# EAGLE library part WE-FB_EFD25_SCH1 (library WE-FB)
WE-FB Flyback Transformer suitable for LT3573/ LT3574/ LT3575/ LT3748 Characteristics Easy design-in solution Less external components needed Small board space Low cost No optocoupler needed! Long term reliability voltage control No aging Same external parts for different output voltages Easy design of custom power supply due to standard circuit and change of transformers and two components for feedback loop Isolation voltage up to 2.5 kV Applications Isolated power design Sensor interfaces Isolated telecom converters Power over Ethernet <https://www.we-online.com/catalog/media/o35283v209%20Family_we-fb_LT%20Kits_gruppe.jpg> Details see: www.we-online.com/catalog/WE-FB <www.we-online.com/catalog/WE-FB/?utm_source=eagle_model&utm_medium=description_link&utm_campaign=eisos_eagle> Updated by Ella Wu 2022-07-21 2022 Wurth Elektronik
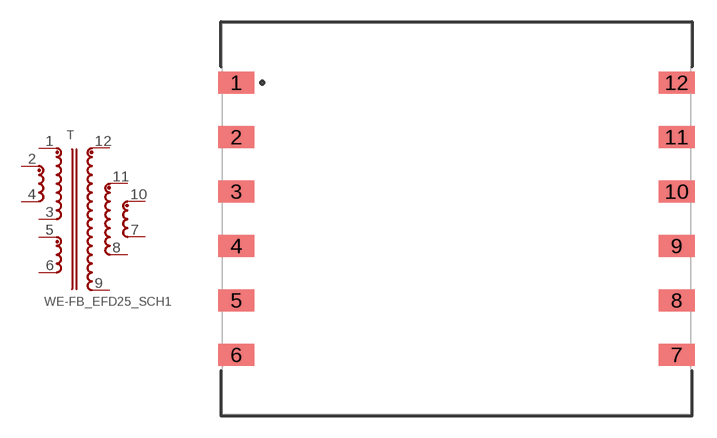
[diagram p6: symbol with the pads of WE-FB_EFD25; footprint WE-FB_EFD25]

Designator prefix T

## WE-FB_EFD25_SCH1_750311589 (DATASHEET-URL: https://www.we-online.com/redexpert/spec/750311589?ae; IOUT: 9A; ISAT: 18A; L: 6uH; LSMIN: 0.2uH; MOUNT: SMT; N: 3:1; PART-NUMBER: 750311589; VALUE: 750311589; VIN: 20-48V(DC); VOUT: 5V; VT: 1500V(AC)), WE-FB_EFD25_SCH1_750311590 (DATASHEET-URL: https://www.we-online.com/redexpert/spec/750311590?ae; IOUT: 3.8A; ISAT: 18A; L: 8uH; LSMIN: 0.2uH; MOUNT: SMT; N: 2:1; PART-NUMBER: 750311590; VALUE: 750311590; VIN: 20-48V(DC); VOUT: 12V; VT: 1500V(AC)), WE-FB_EFD25_SCH1_750311591 (DATASHEET-URL: https://www.we-online.com/redexpert/spec/750311591?ae; IOUT: 3A; ISAT: 20A; L: 8uH; LSMIN: 0.2uH; MOUNT: SMT; N: 3:2; PART-NUMBER: 750311591; VALUE: 750311591; VIN: 20-48V(DC); VOUT: 15V; VT: 1500V(AC)), WE-FB_EFD25_SCH1_750311592 (DATASHEET-URL: https://www.we-online.com/redexpert/spec/750311592?ae; IOUT: 1.9A; ISAT: 18A; L: 8uH; LSMIN: 0.2uH; MOUNT: SMT; N: 1:1; PART-NUMBER: 750311592; VALUE: 750311592; VIN: 20-48V(DC); VOUT: 24V; VT: 1500V(AC)), WE-FB_EFD25_SCH1_750311593 (DATASHEET-URL: https://www.we-online.com/redexpert/spec/750311593?ae; IOUT: 9A; ISAT: 18A; L: 15uH; LSMIN: 0.3uH; MOUNT: SMT; N: 7:2; PART-NUMBER: 750311593; VALUE: 750311593; VIN: 30-75V(DC); VOUT: 5V; VT: 1500V(AC)), WE-FB_EFD25_SCH1_750311594 (DATASHEET-URL: https://www.we-online.com/redexpert/spec/750311594?ae; IOUT: 3.8A; ISAT: 18A; L: 15uH; LSMIN: 0.4uH; MOUNT: SMT; N: 5:2; PART-NUMBER: 750311594; VALUE: 750311594; VIN: 30-75V(DC); VOUT: 12V; VT: 1500V(AC)), WE-FB_EFD25_SCH1_750311595 (DATASHEET-URL: https://www.we-online.com/redexpert/spec/750311595?ae; IOUT: 3A; ISAT: 16A; L: 12uH; LSMIN: 0.2uH; MOUNT: SMT; N: 2:1; PART-NUMBER: 750311595; VALUE: 750311595; VIN: 30-75V(DC); VOUT: 15V; VT: 2500V(AC)), WE-FB_EFD25_SCH1_750311596 (DATASHEET-URL: https://www.we-online.com/redexpert/spec/750311596?ae; IOUT: 1.9A; ISAT: 18A; L: 12uH; LSMIN: 0.2uH; MOUNT: SMT; N: 3:2; PART-NUMBER: 750311596; VALUE: 750311596; VIN: 30-75V(DC); VOUT: 24V; VT: 1500V(AC)), WE-FB_EFD25_SCH1_750311771 (DATASHEET-URL: https://www.we-online.com/redexpert/spec/750311771?ae; IOUT: 3A; ISAT: 2.5A; L: 500uH; LSMIN: 5uH; MOUNT: SMT; N: 6:1; PART-NUMBER: 750311771; VALUE: 750311771; VIN: 100-400V(DC); VOUT: 15V; VT: 1500V(AC)), WE-FB_EFD25_SCH1_750311783 (DATASHEET-URL: https://www.we-online.com/redexpert/spec/750311783?ae; IOUT: 2.5A; ISAT: 16A; L: 20uH; LSMIN: 0.17uH; MOUNT: SMT; N: 1.5:1; PART-NUMBER: 750311783; VALUE: 750311783; VIN: 19-70V(DC); VOUT: 24V; VT: 1500V(AC))  [WE-FB_EFD25]
1  1  pas
2  2  pas
3  4  pas
4  3  pas
5  5  pas
6  6  pas
7  9  pas
8  8  pas
9  7  pas
10  10  pas
11  11  pas
12  12  pas

## Footprint WE-FB_EFD25 (pad centres in mm)
WE-FB Flyback Transformer suitable for LT3573/ LT3574/ LT3575/ LT3748 Size: EFD25 SMD12 Pin
smd 2.5 x 1.52: 1 -15.19,9.4; 2 -15.19,5.64; 3 -15.19,1.88; 4 -15.19,-1.88; 5 -15.19,-5.64; 6 -15.19,-9.4; 7 15.19,-9.4; 8 15.19,-5.64; 9 15.19,-1.88; 10 15.19,1.88; 11 15.19,5.64; 12 15.19,9.4